# EAGLE library part PIC16F882-I_SP (library PIC16F882-I_SP)
8-Bit CMOS Microcontrollers Source: Datasheet <http://componentsearchengine.com/Datasheets/1/PIC16F882-I_SP.pdf>
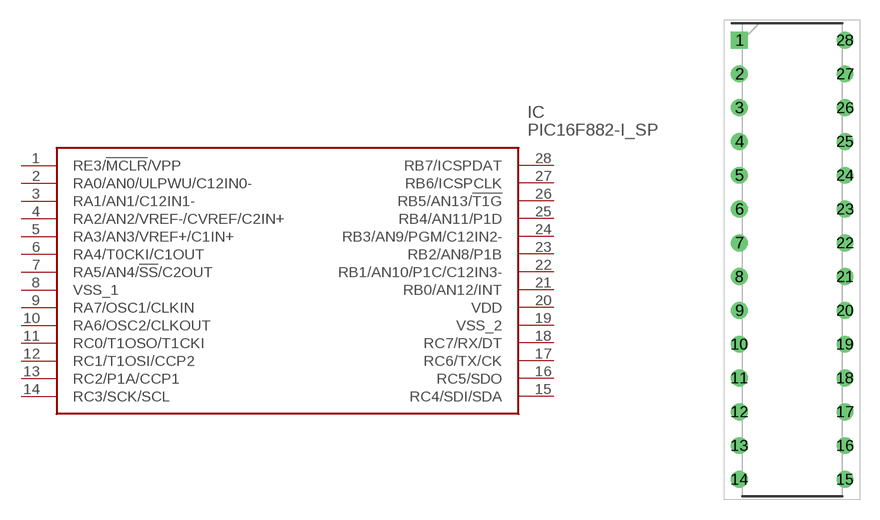
[diagram p0: symbol with the pads of DIP794W56P254L3486H508Q28N; footprint DIP794W56P254L3486H508Q28N]

Designator prefix IC

## PIC16F882-I_SP (Description: 8-Bit CMOS Microcontrollers; Height: 5.08mm; Manufacturer_Name: Microchip; Manufacturer_Part_Number: PIC16F882-I/SP; Mouser_Part_Number: 579-PIC16F882-I/SP; Mouser_Price-Stock: https://www.mouser.co.uk/ProductDetail/Microchip-Technology/PIC16F882-I-SP?qs=UEmB0FaNOjhF%2FZHvGt3HXQ%3D%3D)  [DIP794W56P254L3486H508Q28N]
1  RE3/!MCLR!/VPP
2  RA0/AN0/ULPWU/C12IN0-
3  RA1/AN1/C12IN1-
4  RA2/AN2/VREF-/CVREF/C2IN+
5  RA3/AN3/VREF+/C1IN+
6  RA4/T0CKI/C1OUT
7  RA5/AN4/!SS!/C2OUT
8  VSS_1
9  RA7/OSC1/CLKIN
10  RA6/OSC2/CLKOUT
11  RC0/T1OSO/T1CKI
12  RC1/T1OSI/CCP2
13  RC2/P1A/CCP1
14  RC3/SCK/SCL
15  RC4/SDI/SDA
16  RC5/SDO
17  RC6/TX/CK
18  RC7/RX/DT
19  VSS_2
20  VDD
21  RB0/AN12/INT
22  RB1/AN10/P1C/C12IN3-
23  RB2/AN8/P1B
24  RB3/AN9/PGM/C12IN2-
25  RB4/AN11/P1D
26  RB5/AN13/!T1G
27  RB6/ICSPCLK
28  RB7/ICSPDAT

## Footprint DIP794W56P254L3486H508Q28N (pad centres in mm)
pdip
drill 0.759 pad 1.159 square: 1 -3.969,16.51
drill 0.759 pad 1.159: 2 -3.969,13.97; 3 -3.969,11.43; 4 -3.969,8.89; 5 -3.969,6.35; 6 -3.969,3.81; 7 -3.969,1.27; 8 -3.969,-1.27; 9 -3.969,-3.81; 10 -3.969,-6.35; 11 -3.969,-8.89; 12 -3.969,-11.43; 13 -3.969,-13.97; 14 -3.969,-16.51; 15 3.969,-16.51; 16 3.969,-13.97; 17 3.969,-11.43; 18 3.969,-8.89; 19 3.969,-6.35; 20 3.969,-3.81; 21 3.969,-1.27; 22 3.969,1.27; 23 3.969,3.81; 24 3.969,6.35; 25 3.969,8.89; 26 3.969,11.43; 27 3.969,13.97; 28 3.969,16.51